# EAGLE library part ONET8501P (library yapo)
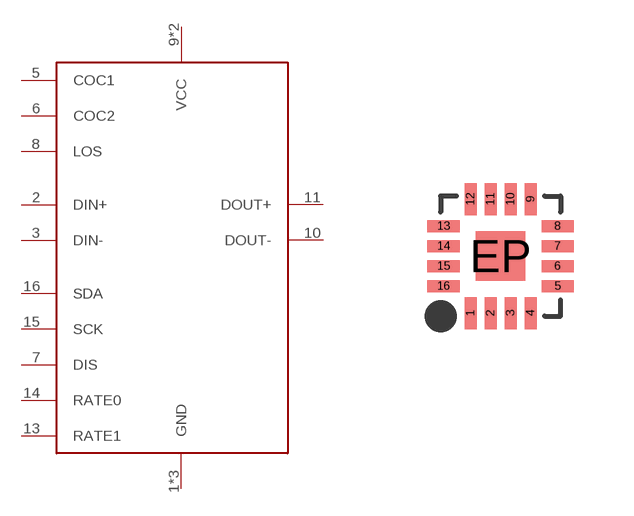
[diagram p68: symbol with the pads of TQFN16-EP; footprint TQFN16-EP]

Designator prefix IC

## ONET8501P  [TQFN16-EP]
1  GND
2  DIN+
3  DIN-
4  GND
5  COC1
6  COC2
7  DIS
8  LOS
9  VCC
10  DOUT-
11  DOUT+
12  VCC
13  RATE1
14  RATE0
15  SCK
16  SDA
EP  GND

## Footprint TQFN16-EP (pad centres in mm)
smd 0.3 x 0.8: 1 -0.75,-1.425; 2 -0.25,-1.425; 3 0.25,-1.425; 4 0.75,-1.425; 9 0.75,1.425; 10 0.25,1.425; 11 -0.25,1.425; 12 -0.75,1.425
smd 0.8 x 0.3: 5 1.425,-0.75; 6 1.425,-0.25; 7 1.425,0.25; 8 1.425,0.75; 13 -1.425,0.75; 14 -1.425,0.25; 15 -1.425,-0.25; 16 -1.425,-0.75
smd 1.23 x 1.23: EP 0,0